# Altium integrated library lib_yageo.IntLib: 5 symbols
Pins are listed as number, name and electrical type; pins without a type are passive.

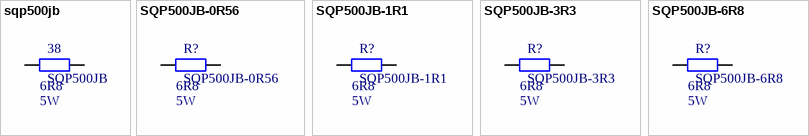
[diagram p0: symbols sqp500jb to SQP500JB-6R8]

## sqp500jb
designator 38, comment SQP500JB  value 6R8  power: 5W
Axial lead Type Cement resistor; ComponentLink1Description: Datasheet; ComponentLink1URL: https://www.yageo.com/upload/media/product/products/datasheet/lr/Yageo_LR_SQP_NSP_1.pdf
footprint SQP500JB
pins: 1, 2

## SQP500JB-0R56
designator R?  value 6R8  power: 5W
Axial lead Type Cement resistor; ComponentLink1Description: Datasheet; ComponentLink1URL: https://www.yageo.com/upload/media/product/products/datasheet/lr/Yageo_LR_SQP_NSP_1.pdf; Supplier 1: Digi-Key; Supplier Part Number 1: 0.56W-5-ND
footprint SQP500JB
pins: 1, 2

## SQP500JB-1R1
designator R?  value 6R8  power: 5W
Axial lead Type Cement resistor; ComponentLink1Description: Datasheet; ComponentLink1URL: https://www.yageo.com/upload/media/product/products/datasheet/lr/Yageo_LR_SQP_NSP_1.pdf; Supplier 1: Digi-Key; Supplier Part Number 1: 1.1W-5-ND
footprint SQP500JB
pins: 1, 2

## SQP500JB-3R3
designator R?  value 6R8  power: 5W
Axial lead Type Cement resistor; ComponentLink1Description: Datasheet; ComponentLink1URL: https://www.yageo.com/upload/media/product/products/datasheet/lr/Yageo_LR_SQP_NSP_1.pdf; Supplier 1: Digi-Key; Supplier Part Number 1: 3.3W-5-ND
footprint SQP500JB
pins: 1, 2

## SQP500JB-6R8
designator R?  value 6R8  power: 5W
Axial lead Type Cement resistor; ComponentLink1Description: Datasheet; ComponentLink1URL: https://www.yageo.com/upload/media/product/products/datasheet/lr/Yageo_LR_SQP_NSP_1.pdf; Supplier 1: Digi-Key; Supplier Part Number 1: 6.8W-5-ND
footprint SQP500JB
pins: 1, 2